# EAGLE library part 589IR12 (library 589)
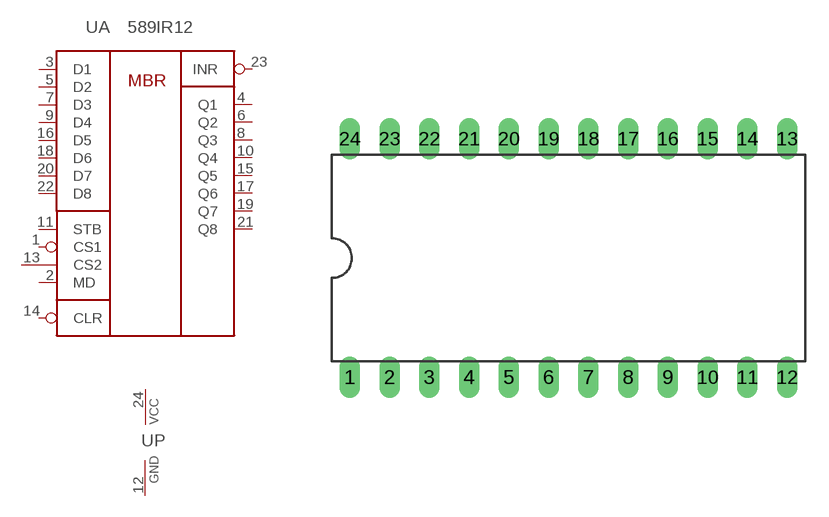
[diagram p0: symbol with the pads of DIL24-6; footprint DIL24-6]

Designator prefix -; gates A=589IR12 P=PWRN

## 589IR12  [DIL24-6]
1  A:CS1  in
2  A:MD  in
3  A:D1  in
4  A:Q1  out
5  A:D2  in
6  A:Q2  out
7  A:D3  in
8  A:Q3  out
9  A:D4  in
10  A:Q4  out
11  A:STB  in
12  P:GND  pwr
13  A:CS2  in
14  A:CLR  in
15  A:Q5  out
16  A:D5  in
17  A:Q6  out
18  A:D6  in
19  A:Q7  out
20  A:D7  in
21  A:Q8  out
22  A:D8  in
23  A:INR  out
24  P:VCC  pwr

## Footprint DIL24-6 (pad centres in mm)
Dual In Line Package 0.6 inch
drill 0.813 long: 1 -13.97,-7.62; 2 -11.43,-7.62; 3 -8.89,-7.62; 4 -6.35,-7.62; 5 -3.81,-7.62; 6 -1.27,-7.62; 7 1.27,-7.62; 8 3.81,-7.62; 9 6.35,-7.62; 10 8.89,-7.62; 11 11.43,-7.62; 12 13.97,-7.62; 13 13.97,7.62; 14 11.43,7.62; 15 8.89,7.62; 16 6.35,7.62; 17 3.81,7.62; 18 1.27,7.62; 19 -1.27,7.62; 20 -3.81,7.62; 21 -6.35,7.62; 22 -8.89,7.62; 23 -11.43,7.62; 24 -13.97,7.62